# Altium footprint library EN_Probe_VR.PcbLib: 10 footprints
Each footprint in its own frame and in the unit in brackets; x right, y up, seen from the top. Pads: shape width x height; smd on the part's side, far side on the other; paste and mask are expansions set on the pad; w line width, h text height; cw(c..) or ccw(c..) is an arc to the next point about the centre after c.
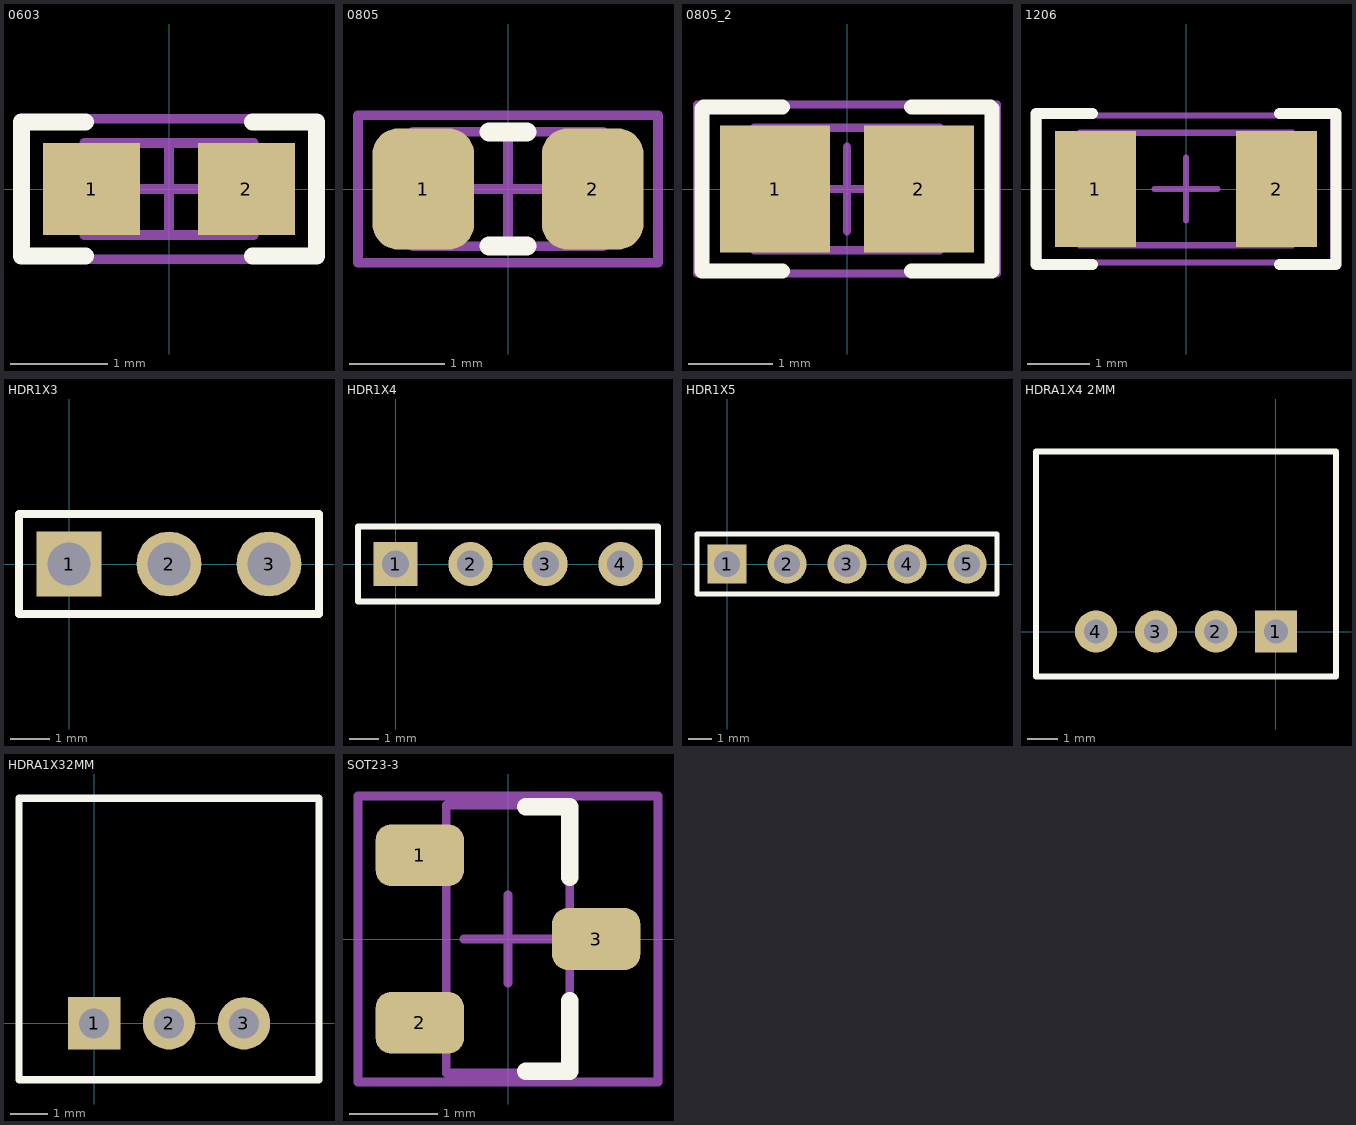
[diagram p0: the footprints below, top view; thin cyan lines are the x and y axes]

## 0603 [mm] "0603 from SM-752 data"
height 1
pads (2):
  rect 1x0.95 smd: 1(-0.8,0) 2(0.8,0)
Top Overlay:
  lines w0.178: -0.864,-0.691 -1.524,-0.691 -1.524,0.693 -0.864,0.693 ; 0.864,-0.691 1.524,-0.691 1.524,0.693 0.864,0.693
Mechanical 5:
  lines w0.1: -1.55,-0.725 -1.55,0.725 1.55,0.725 1.55,-0.725 -1.55,-0.725
  text ".Designator" at -1.397,-0.381 h0.76
Mechanical 13:
  lines w0.1: -0.55,-0.475 -0.55,0.475 ; 0.55,-0.475 0.55,0.475 ; -0.875,-0.475 0.875,-0.475 0.875,0.475 -0.875,0.475 -0.875,-0.475
Mechanical 15:
  lines w0.1: -0.475,0 0.475,0 ; 0,-0.475 0,0.475 ; -1.55,-0.725 1.55,-0.725 1.55,0.725 -1.55,0.725 -1.55,-0.725
3D body: height 1, standoff 0, extent -0.874,-0.474 -0.551,0.474
3D body: height 1, standoff 0, extent -0.549,-0.474 0.549,0.474
3D body: height 1, standoff 0, extent 0.551,-0.474 0.874,0.474

## 0805 [mil] "Chip Capacitor, 2-Leads, Body 2.0x1.25mm, IPC"
height 47.24
pads (2):
  rrect50% 42x50 smd: 1(-35,0) 2(35,0)
Top Overlay:
  lines w7.87: -7.87,-23.62 7.87,-23.62 ; -7.87,23.62 7.87,23.62
Mechanical 13:
  lines w3.94: -39.36,-23.62 -39.36,23.63 39.38,23.63 39.38,-23.62 -39.36,-23.62
Mechanical 15:
  lines w3.94: -19.68,0 19.69,0 ; 0,-19.68 0,19.69 ; -62.01,-30.51 62.01,-30.51 62.01,30.51 -62.01,30.51 -62.01,-30.51
3D body "CAPC2012X120N EIA 0805.step": height 47.24, standoff 0, extent -39.36,-23.62 39.38,23.63

## 0805_2 [mm]
pads (2):
  rect 1.3x1.5 smd: 1(-0.85,0) 2(0.85,0)
Top Overlay:
  lines w0.178: -0.762,-0.968 -1.717,-0.968 -1.717,0.95 -1.699,0.968 -0.762,0.968 ; 0.762,-0.968 1.717,-0.968 1.717,0.95 1.699,0.968 0.762,0.968
Mechanical 5:
  lines w0.1: -1.775,-1 1.775,-1 1.775,1 -1.775,1 -1.775,-1
  text ".Designator" at -1.525,-0.425 h0.81
Mechanical 13:
  lines w0.1: -0.65,-0.725 -0.65,0.725 ; 0.65,-0.725 0.65,0.725 ; -1.1,-0.725 1.1,-0.725 1.1,0.725 -1.1,0.725 -1.1,-0.725
Mechanical 15:
  lines w0.1: -0.5,0 0.5,0 ; 0,-0.5 0,0.5 ; -1.775,-1 1.775,-1 1.775,1 -1.775,1 -1.775,-1
3D body: height 1.45, standoff 0, extent -1.099,-0.724 -0.651,0.724
3D body: height 1.45, standoff 0, extent -0.649,-0.724 0.649,0.724
3D body: height 1.45, standoff 0, extent 0.651,-0.724 1.099,0.724

## 1206 [mm] "1206 from SM-752 data"
height 1.35
pads (2):
  rect 1.3x1.85 smd: 1(-1.45,0) 2(1.45,0)
Top Overlay:
  lines w0.178: -1.5,-1.21 -2.4,-1.21 -2.4,1.21 -1.5,1.21 ; 1.5,-1.21 2.4,-1.21 2.4,1.21 1.5,1.21
Mechanical 5:
  lines w0.1: -1.7,-0.9 -1.7,0.9 1.7,0.9 1.7,-0.9 -1.7,-0.9
  text ".Designator" at -1.475,-0.4 h0.81
Mechanical 13:
  lines w0.1: -1.2,-0.9 -1.2,0.9 ; 1.2,-0.9 1.2,0.9 ; -1.7,-0.9 -1.7,0.9 1.7,0.9 1.7,-0.9 -1.7,-0.9
Mechanical 15:
  lines w0.1: -0.5,0 0.5,0 ; 0,-0.5 0,0.5 ; -2.35,-1.175 -2.35,1.175 2.35,1.175 2.35,-1.175 -2.35,-1.175
3D body: height 1.35, standoff 0, extent 1.201,-0.899 1.699,0.899
3D body: height 1.35, standoff 0, extent -1.199,-0.899 1.199,0.899
3D body: height 1.35, standoff 0, extent -1.699,-0.899 -1.201,0.899

## HDR1X3 [mil]
height 47.24
pads (3):
  rect 65x65 hole 43.31: 1(0,0)
  round 65 hole 43.31: 2(100,0) 3(200,0)
Top Overlay:
  lines w7.87: -50,-50 -50,50 250,50 250,-50 -50,-50
3D body "User Library-Header_Male_3Pin.STEP": height 336.22, standoff -118.11, extent -50,-49.01 250,49.02

## HDR1X4 [mm] "Connector; Header; 4 Position"
height 1.2
pads (4):
  rect 1.5x1.5 hole 0.9: 1(0,0)
  round 1.5 hole 0.9: 2(2.54,0) 3(5.08,0) 4(7.62,0)
Top Overlay:
  lines w0.2: -1.27,-1.27 -1.27,1.27 8.89,1.27 8.89,-1.27 -1.27,-1.27

## HDR1X5 [mil]
height 47.24
pads (5):
  rect 65x65 hole 43.31: 1(0,0)
  round 65 hole 43.31: 2(100,0) 3(200,0) 4(300,0) 5(400,0)
Top Overlay:
  lines w7.87: -50,-50 450,-50 450,50 -50,50 -50,-50
3D body "User Library-Header_Male_5Pin.STEP": height 336.22, standoff -118.11, extent -50,-49.01 450,49.02

## HDRA1X4 2MM [mm] "Connector; Header; 4 Position RA"
height 4.8
pads (4):
  rect 1.4x1.4 hole 0.8: 1(0,0)
  round 1.4 hole 0.8: 2(-2,0) 3(-4,0) 4(-6,0)
Top Overlay:
  lines w0.2: -8,-1.5 2,-1.5 2,6 -8,6 -8,-1.5

## HDRA1X32MM [mm] "Connector; Header; 3 Position RA"
height 4.8
pads (3):
  rect 1.4x1.4 hole 0.8: 1(0,0)
  round 1.4 hole 0.8: 2(2,0) 3(4,0)
Top Overlay:
  lines w0.2: -2,-1.5 -2,6 6,6 6,-1.5 -2,-1.5

## SOT23-3 [mm] "SOT23, 3-Leads, Body 3.0x2.6mm (max), Pitch 0.95mm, IPC High Density"
height 1.12
pads (3):
  rrect50% 1x0.7 smd: 1(-1,0.95) 2(-1,-0.95) 3(1,0)
Top Overlay:
  lines w0.2: 0.2,-1.5 0.7,-1.5 0.7,-0.7 ; 0.2,1.5 0.7,1.5 0.7,0.7
Mechanical 13:
  lines w0.1: -0.7,-1.52 0.7,-1.52 0.7,1.52 -0.7,1.52 -0.7,-1.52
Mechanical 15:
  lines w0.1: -0.5,0 0.5,0 ; 0,-0.5 0,0.5 ; -1.7,-1.62 1.7,-1.62 1.7,1.62 -1.7,1.62 -1.7,-1.62
3D body "CircuitWorks-SOT-23.step": height 1.1, standoff 0, extent -1.25,-1.5 1.25,1.5